# Altium footprint library Buttons.PcbLib: 13 footprints
Each footprint in its own frame and in the unit in brackets; x right, y up, seen from the top. Pads: shape width x height; smd on the part's side, far side on the other; paste and mask are expansions set on the pad; w line width, h text height; cw(c..) or ccw(c..) is an arc to the next point about the centre after c.
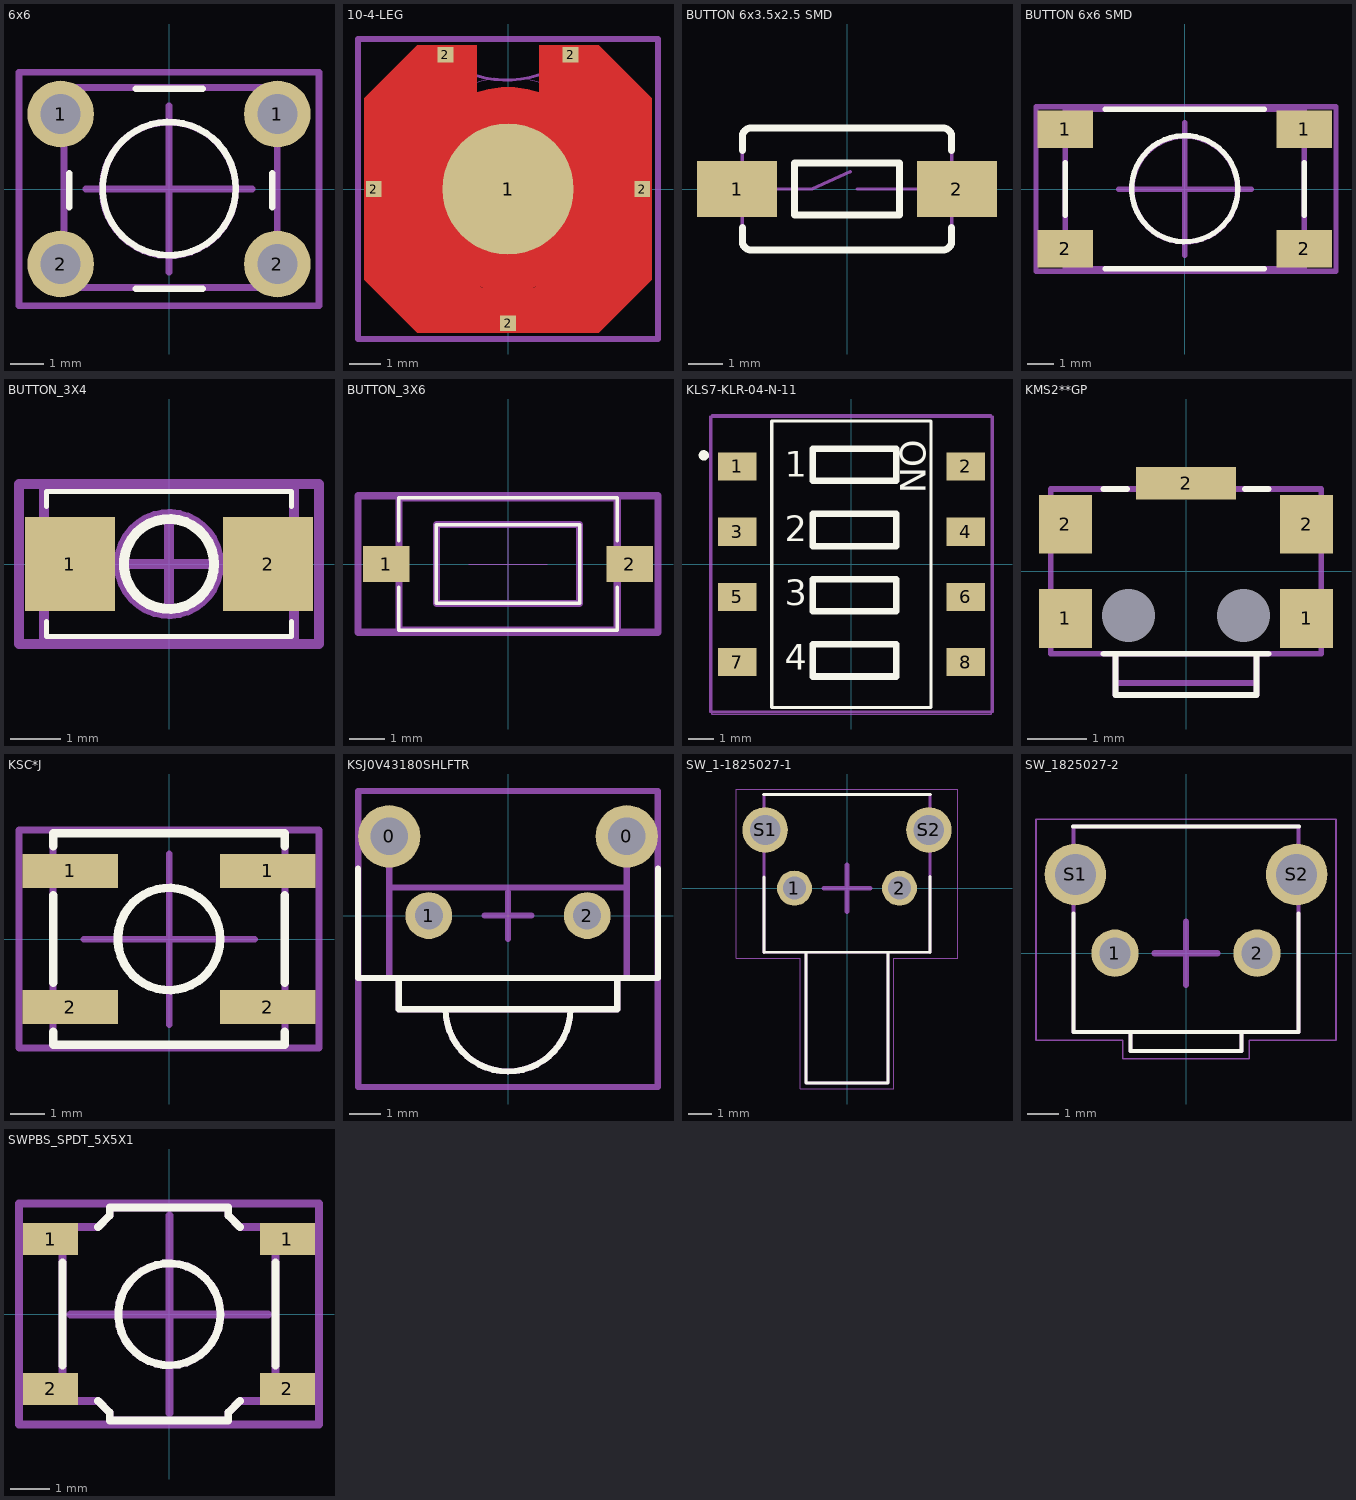
[diagram p0: the footprints below, top view; thin cyan lines are the x and y axes]

## 6x6 [mm] "Leaded Tactile Button 6x6"
height 5
pads (4):
  round 2 hole 1.2: 1(-3.25,2.25) 1(3.25,2.25) 2(-3.25,-2.25) 2(3.25,-2.25)
Top Overlay:
  circle w0.2: c0.004,0.012 r2
  lines w0.2: -2.996,-0.544 -2.996,0.472 ; -0.996,-2.988 1.004,-2.988 ; -0.996,3.012 1.004,3.012 ; 3.1,-0.544 3.1,0.472
Top Assembly:
  circle w0.2: c0,0 r2.004
  lines w0.2: -3.148,-2.957 -3.148,3.043 3.252,3.043 3.252,-2.957 -3.148,-2.957
Top Courtyard:
  lines w0.2: -2.5,0 0,0 ; 0,-2.5 0,0 ; 0,2.5 0,0 ; 2.5,0 0,0 ; -4.5,-3.5 -4.5,3.5 4.5,3.5 4.5,-3.5 -4.5,-3.5
3D body "кнопка_тактовая_6х6х1.STEP": height 4.5, standoff -0.9, extent -3.148,-2.957 3.252,3.043

## 10-4-LEG [mm] "Metal Dome 10mm Nicomatic 10-4L-280"
pads (6):
  round 4.2 smd paste-2.1: 1(0,0)
  rect 0.5x0.5 smd paste-0.25: 2(-4.3,0) 2(-2,4.3) 2(0,-4.3) 2(2,4.3) 2(4.3,0)
Top Layer:
  pour cut-out: 0,-3.25 -0.213,-3.25 -0.635,-3.194 -1.047,-3.084 -1.441,-2.921 -1.809,-2.708 -2.147,-2.449 -2.449,-2.147 -2.708,-1.809 -2.921,-1.441 -3.084,-1.047 -3.194,-0.635 -3.25,-0.213 -3.25,0 -3.25,0.213 -3.194,0.635 -3.084,1.047 -2.921,1.441 -2.708,1.809 -2.449,2.147 -2.147,2.449 -1.809,2.708 -1.441,2.921 -1.047,3.084 -0.635,3.194 -0.213,3.25 0,3.25 0.213,3.25 0.635,3.194 1.047,3.084 1.441,2.921 1.809,2.708 2.147,2.449 2.449,2.147 2.708,1.809 2.921,1.441 3.084,1.047 3.194,0.635 3.25,0.213 3.25,0 3.25,-0.213 3.194,-0.635 3.084,-1.047 2.921,-1.441 2.708,-1.809 2.449,-2.147 2.147,-2.449 1.809,-2.708 1.441,-2.921 1.047,-3.084 0.635,-3.194 0.213,-3.25
  region: -2.9,-4.6 -4.6,-2.9 -4.6,2.9 -2.9,4.6 -1,4.6 -1,3.092 -1.269,2.992 -1.776,2.722 -2.227,2.367 -2.608,1.939 -2.909,1.45 -3.118,0.916 -3.231,0.353 -3.242,-0.221 -3.153,-0.788 -2.965,-1.33 -2.685,-1.831 -2.321,-2.275 -1.885,-2.647 -1.39,-2.938 -0.852,-3.136 -0.287,-3.237 0,-3.25 0.287,-3.237 0.852,-3.136 1.39,-2.938 1.885,-2.647 2.321,-2.275 2.685,-1.831 2.965,-1.33 3.153,-0.788 3.242,-0.221 3.231,0.353 3.118,0.916 2.909,1.45 2.608,1.939 2.227,2.367 1.776,2.722 1.269,2.992 1,3.092 1,4.6 2.9,4.6 4.6,2.9 4.6,-2.9 2.9,-4.6
Top Solder:
  circle w0.013: c0,0 r3.7
  rectangle: -1.3,2.9 1.2,4.8
  region: 0,-3.7 -0.243,-3.7 -0.723,-3.637 -1.192,-3.511 -1.64,-3.326 -2.06,-3.083 -2.445,-2.788 -2.788,-2.445 -3.083,-2.06 -3.326,-1.64 -3.511,-1.192 -3.637,-0.723 -3.7,-0.243 -3.7,0 -3.7,0.243 -3.637,0.723 -3.511,1.192 -3.326,1.64 -3.083,2.06 -2.788,2.445 -2.445,2.788 -2.06,3.083 -1.64,3.326 -1.192,3.511 -0.723,3.637 -0.243,3.7 0,3.7 0.243,3.7 0.723,3.637 1.192,3.511 1.64,3.326 2.06,3.083 2.445,2.788 2.788,2.445 3.083,2.06 3.326,1.64 3.511,1.192 3.637,0.723 3.7,0.243 3.7,0 3.7,-0.243 3.637,-0.723 3.511,-1.192 3.326,-1.64 3.083,-2.06 2.788,-2.445 2.445,-2.788 2.06,-3.083 1.64,-3.326 1.192,-3.511 0.723,-3.637 0.243,-3.7
Top Assembly:
  drawing of 202 lines, arcs and shapes, not listed
Top Courtyard:
  lines w0.2: -2.5,0 0,0 ; 0,-2.5 0,0 ; 0,2.5 0,0 ; 2.5,0 0,0 ; -4.8,-4.8 4.8,-4.8 4.8,4.8 -4.8,4.8 -4.8,-4.8
3D body "Мембрана Nicomatic 10-4L-280.STEP": height 0.64, standoff 0, extent -6.904,-6.904 6.904,6.904

## BUTTON 6x3.5x2.5 SMD [mm]
pads (2):
  rect 2.3x1.6 smd: 1(-3.15,0) 2(3.15,0)
Top Overlay:
  lines w0.203: -3,-1.1 -3,-1.5 ccw(c-2.75,-1.5) -2.75,-1.75 2.75,-1.75 ccw(c2.75,-1.5) 3,-1.5 3,-1.1 ; -3,1.1 -3,1.5 cw(c-2.75,1.5) -2.75,1.75 2.75,1.75 cw(c2.75,1.5) 3,1.5 3,1.1 ; -1.5,-0.75 -1.5,0.75 1.5,0.75 1.5,-0.75 -1.5,-0.75
Top Assembly:
  lines w0.1: -2,0 -1,0 0.1,0.5 ; 0.3,0 2,0 ; -3,-1.5 ccw(c-2.75,-1.5) -2.75,-1.75 2.75,-1.75 ccw(c2.75,-1.5) 3,-1.5 3,-1.1 3,1.1 3,1.5 ccw(c2.75,1.5) 2.75,1.75 -2.75,1.75 ccw(c-2.75,1.5) -3,1.5 -3,1.1 -3,-1.1 -3,-1.5
3D body "6x3mm Button.stp": height 2.54, standoff -0.03, extent -3.886,-1.791 3.886,1.791

## BUTTON 6x6 SMD [mm] "Leaded Tactile Button 6x6"
height 9
pads (4):
  rect 2.1x1.4 smd: 1(-4.5,2.25) 1(4.5,2.25) 2(-4.5,-2.25) 2(4.5,-2.25)
Top Overlay:
  circle w0.2: c0.004,0.012 r2
  lines w0.2: -4.5,-1 -4.5,1 ; -3,-3 3,-3 ; -3,3 3,3 ; 4.5,-1 4.5,1
Mechanical 1:
  lines w0.05: -4.5,-3 4.5,-3 4.5,3 -4.5,3 -4.5,-3
Top Assembly:
  circle w0.2: c0.008,-0.008 r1.992
  lines w0.2: -4.5,3 4.5,3 ; -4.5,3 -4.5,3 ; -4.5,3 -4.5,-3 4.5,-3 ; 4.5,-3 4.5,-3 ; 4.5,-3 4.5,3 ; 4.5,3 4.5,3
Top Courtyard:
  lines w0.2: -2.492,-0.008 0.008,-0.008 ; 0.008,-2.508 0.008,-0.008 ; 0.008,2.492 0.008,-0.008 ; 2.508,-0.008 0.008,-0.008 ; -5.6,-3.1 5.7,-3.1 5.7,3.1 -5.6,3.1 -5.6,-3.1
3D body "User Library-PTS645SL43SMTR92-LFS.STEP": height 4.3, standoff 0, extent -4.5,-3 4.5,3

## BUTTON_3X4 [mil]
height 78.74
pads (2):
  rect 70.87x74 smd: 1(-78,0) 2(78,0)
Top Overlay:
  circle w7.87: c0,0 r35.43
  lines w3.94: -96.45,-45.28 -96.45,-57.08 96.46,-57.08 96.46,-45.27 ; -96.45,45.28 -96.45,57.09 96.46,57.09 96.46,45.27
Top Assembly:
  circle w7.87: c0,0 r39.37
  lines w7.87: -98.43,-59.05 98.43,-59.05 98.43,59.06 -98.43,59.06 -98.43,-59.05
Top Courtyard:
  lines w7.87: -39.37,0 0,0 ; 0,-39.37 0,0 ; 0,39.37 0,0 ; 39.37,0 0,0 ; -118.11,-62.99 118.11,-62.99 118.11,62.99 -118.11,62.99 -118.11,-62.99
3D body "User Library-Pushbutton3x4x2.step": height 78.74, standoff 0, extent -96.45,-57.08 96.46,57.09

## BUTTON_3X6 [mm]
pads (2):
  rect 1.3x1 smd: 1(-3.4,0) 2(3.4,0)
Top Overlay:
  lines w0.1: -3.05,-0.65 -3.05,-1.85 3.05,-1.85 3.05,-0.65 ; -3.05,0.65 -3.05,1.85 3.05,1.85 3.05,0.65 ; -2,-1.1 2,-1.1 2,1.1 -2,1.1 -2,-1.1
Top Assembly:
  lines w0.2: -3.05,-1.85 3.05,-1.85 3.05,1.85 -3.05,1.85 -3.05,-1.85 ; -2,-1.1 2,-1.1 2,1.1 -2,1.1 -2,-1.1
Top Courtyard:
  lines w0: -1.1,0 0,0 ; 0,-1.1 0,0 ; 0,1.1 0,0 ; 1.1,0 0,0
  lines w0.2: -4.191,-1.905 -4.191,1.905 4.191,1.905 4.191,-1.905 -4.191,-1.905
3D body "SW3dPS-TVBU19.STEP": height 2.5, standoff 0, extent -3.05,-1.85 3.05,1.85

## KLS7-KLR-04-N-11 [mm] "4-Pos 2.54mm SMD DIP-SW"
height 4.86
pads (8):
  rect 1.5x1.1 smd: 1(-4.45,3.81) 2(4.45,3.81) 3(-4.45,1.27) 4(4.45,1.27) 5(-4.45,-1.27) 6(4.45,-1.27) 7(-4.45,-3.81) 8(4.45,-3.81)
Top Overlay:
  circle w0.2: c-5.75,4.24 r0.1
  lines w0.127: -3.1,-5.58 -3.1,5.58 3.1,5.58 3.1,-5.58 -3.1,-5.58
  lines w0.254: -1.5,-4.37 1.75,-4.37 1.75,-3.12 -1.5,-3.12 -1.5,-4.37 ; -1.5,-1.83 1.75,-1.83 1.75,-0.58 -1.5,-0.58 -1.5,-1.83 ; -1.5,0.71 1.75,0.71 1.75,1.96 -1.5,1.96 -1.5,0.71 ; -1.5,3.25 1.75,3.25 1.75,4.5 -1.5,4.5 -1.5,3.25
  text "1" at -2.6,3.4 h1
  text "2" at -2.6,0.9 h1
  text "3" at -2.6,-1.6 h1
  text "4" at -2.6,-4.1 h1
  text "ON" at 1.9,4.85 h1
Top Assembly:
  lines w0.05: -5.45,-5.83 -5.45,5.83 5.45,5.83 5.45,-5.83 -5.45,-5.83
Top Courtyard:
  lines w0.1: -5.5,-5.75 -5.5,5.75 5.5,5.75 5.5,-5.75 -5.5,-5.75
3D body "step_temp.STEP": height 4.54, standoff -0.01, extent -4.953,-5.58 4.947,5.58

## KMS2**GP [mm] "KMS Series Microminiature SMT Side Actuated"
height 1.42
pads (7):
  rect 0.9x1 smd paste+0.05: 1(-2.05,-0.8) 1(2.05,-0.8) 2(-2.05,0.8) 2(2.05,0.8)
  rect 1.7x0.55 smd paste+0.05: 2(0,1.5)
  round 0 hole 0.9 unplated paste-2539.97: 55(-0.975,-0.75) 55(0.975,-0.75)
Top Overlay:
  lines w0.1: -1.4,-1.4 1.4,-1.4 ; -1.4,1.4 -1,1.4 ; -1.2,-1.4 -1.2,-2.1 1.2,-2.1 1.2,-1.4 ; 1,1.4 1.4,1.4
Top Assembly:
  lines w0.1: -1.2,-1.9 1.2,-1.9 ; -1.2,-1.4 -1.2,-2.1 1.2,-2.1 1.2,-1.4 ; -2.3,-1.4 2.3,-1.4 2.3,1.4 -2.3,1.4 -2.3,-1.4
3D body "KMS223GPLFG.stp": height 1.42, standoff -0.5, extent -2.3,-2.15 2.3,1.4

## KSC*J [mm]
pads (4):
  rect 2.8x1 smd: 1(-2.9,2) 1(2.9,2) 2(-2.9,-2) 2(2.9,-2)
Top Overlay:
  circle w0.254: c0,0 r1.5
  lines w0.254: -3.4,-2.725 -3.4,-3.1 3.4,-3.1 3.4,-2.725 ; -3.4,-1.275 -3.4,1.275 ; -3.4,2.725 -3.4,3.1 3.4,3.1 3.4,2.725 ; 3.4,-1.275 3.4,1.275
Top Assembly:
  circle w0.2: c0,0 r1.5
  lines w0.2: -3.4,3.1 -3.4,-3.1 3.4,-3.1 ; -3.4,3.1 -3.4,3.1 ; -3.4,3.1 3.4,3.1 ; 3.4,-3.1 3.4,3.1 ; 3.4,-3.1 3.4,-3.1 ; 3.4,3.1 3.4,3.1
Top Courtyard:
  lines w0.2: -2.492,-0.008 0.008,-0.008 ; 0.008,-2.508 0.008,-0.008 ; 0.008,2.492 0.008,-0.008 ; 2.508,-0.008 0.008,-0.008 ; -4.4,-3.2 4.4,-3.2 4.4,3.2 -4.4,3.2 -4.4,-3.2
3D body "User Library-KSC241J.STEP": height 3.48, standoff -0.02, extent -3.4,-3.1 3.4,3.1

## KSJ0V43180SHLFTR [mm]
height 8
pads (4):
  round 2 hole 1.2: 0(-3.81,2.54) 0(3.81,2.54)
  round 1.5 hole 0.9: 1(-2.54,0) 2(2.54,0)
Top Overlay:
  lines w0.2: -4.81,1.5 -4.81,-2 4.81,-2 4.81,1.5 ; -3.5,-2 -3.5,-3 -2,-3 ; 3.5,-2 3.5,-3 2,-3 ; -2,-3 ccw(c0,-3) 2,-3 ; -2,-3 2,-3
Top Assembly:
  lines w0.2: -3.81,2.54 -3.81,-1.99 -3.8,-2 -3.5,-2 ; -3.8,0.9 3.8,0.9 ; -2,-3 ccw(c0,-3) 2,-3 ; 3.81,2.54 3.81,-1.99 3.8,-2 3.5,-2 ; -3.5,-2 3.5,-2 ; -3.5,-2 -3.5,-3 3.5,-3 3.5,-2
Top Courtyard:
  lines w0.2: -0.75,0 0.75,0 ; 0,-0.75 0,0.75 ; -4.8,-5.5 4.8,-5.5 4.8,4 -4.8,4 -4.8,-5.5
3D body "KSJ0V43180SHLFTR.stp": height 7.8, standoff -5.15, extent -4.773,-5.42 4.774,3.945

## SW_1-1825027-1 [mm] "5.74mm Round Button 50mA Bend-in SPST 160gf 24V Plugin Tactile Switches ROHS"
pads (4):
  round 1.498 hole 0.99: 1(-2.25,0) 2(2.25,0)
  round 1.95 hole 1.3: S1(-3.505,2.49) S2(3.505,2.49)
Top Overlay:
  lines w0.127: -3.58,4.01 3.58,4.01 ; -3.555,-2.75 -3.555,0.485 ; -3.555,-2.745 -1.755,-2.745 ; 3.555,-2.75 3.555,0.5 ; 3.555,-2.745 1.755,-2.745 ; -1.755,-2.745 1.755,-2.745 ; -1.755,-2.745 -1.755,-8.35 1.755,-8.35 1.755,-2.745
Top Assembly:
  lines w0.127: -3.555,-2.75 -3.555,4.01 3.555,4.01 3.555,-2.745 1.755,-2.745 ; -3.555,-2.745 -1.755,-2.745 ; -1.755,-2.745 1.755,-2.745 ; -1.755,-2.745 -1.755,-8.35 1.755,-8.35 1.755,-2.745
Top Courtyard:
  lines w0.05: -4.75,-3.005 -2.005,-3.005 -2.005,-8.6 2.005,-8.6 2.005,-3.005 4.75,-3.005 4.75,4.245 -4.75,4.245 -4.75,-3.005
  lines w0.2: -1,0 0,0 ; 0,-1 0,0 ; 0,1 0,0 ; 1,0 0,0
3D body "step_temp.STEP": height 7.01, standoff -3.51, extent -4.204,-8.351 4.204,4.019

## SW_1825027-2 [mm] "0.56mm Round Button 50mA Bend-in SPST 160gf 24V Plugin Tactile Switches ROHS"
pads (4):
  round 1.498 hole 0.99: 1(-2.25,0) 2(2.25,0)
  round 1.95 hole 1.3: S1(-3.505,2.49) S2(3.505,2.49)
Top Overlay:
  lines w0.127: -3.58,4.01 3.58,4.01 ; -3.555,1.25 -3.555,-2.495 -1.755,-2.495 ; 3.555,1.25 3.555,-2.495 1.755,-2.495 ; -1.755,-2.495 -1.755,-3.1 1.755,-3.1 1.755,-2.495 ; -1.755,-2.495 1.755,-2.495
Top Assembly:
  lines w0.127: 3.555,4 3.555,-2.495 1.755,-2.495 ; 3.555,4.01 -3.555,4.01 -3.555,-2.495 -1.755,-2.495 ; -1.755,-2.495 -1.755,-3.1 1.755,-3.1 1.755,-2.495 ; -1.755,-2.495 1.755,-2.495
Top Courtyard:
  lines w0.05: -4.75,-2.755 -2.005,-2.755 -2.005,-3.35 2.005,-3.35 2.005,-2.755 4.75,-2.755 4.75,4.245 -4.75,4.245 -4.75,-2.755
  lines w0.2: -1,0 0,0 ; 0,-1 0,0 ; 0,1 0,0 ; 1,0 0,0
3D body "1825027-2.stp": height 7, standoff -3.52, extent -4.204,-3.099 4.204,4.051

## SWPBS_SPDT_5X5X1 [mm] "SWITCH, PUSHBUTTON, SMD, SPDT, SKQG Series ; Height 1.5 mm ; 500,000 cycles ; 0.98N Force, SKQGAFE010"
height 1.5
pads (4):
  rect 1.4x0.8 smd mask+0.1: 1(-3,1.9) 1(3,1.9) 2(-3,-1.9) 2(3,-1.9)
Top Overlay:
  circle w0.2: c0.008,-0.008 r1.292
  lines w0.2: -2.7,-1.3 -2.7,1.3 ; -1.8,-2.2 -1.5,-2.5 -1.5,-2.7 1.5,-2.7 1.5,-2.5 1.8,-2.2 ; -1.8,2.2 -1.5,2.5 -1.5,2.7 1.5,2.7 1.5,2.5 1.8,2.2 ; 2.7,-1.3 2.7,1.3
Top Assembly:
  circle w0.2: c0.008,-0.008 r1.292
  lines w0.2: -2.7,-2.2 -1.8,-2.2 -1.5,-2.5 -1.5,-2.7 1.5,-2.7 1.5,-2.5 1.8,-2.2 2.7,-2.2 2.7,2.2 1.8,2.2 1.5,2.5 1.5,2.7 -1.5,2.7 -1.5,2.5 -1.8,2.2 -2.7,2.2 -2.7,-2.2
Top Courtyard:
  lines w0.2: -2.492,-0.008 0.008,-0.008 ; 0.008,-2.508 0.008,-0.008 ; 0.008,2.492 0.008,-0.008 ; 2.508,-0.008 0.008,-0.008 ; -3.8,-2.8 3.8,-2.8 3.8,2.8 -3.8,2.8 -3.8,-2.8
3D body "SKQGAF.STEP": height 1.53, standoff 0.03, extent -3.2,-2.6 3.2,2.6